# EAGLE library part SBRIO_DIO (library formula electric)
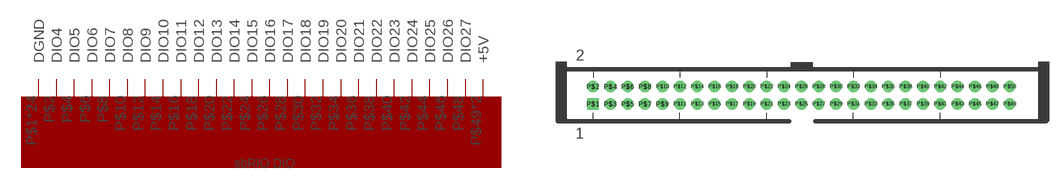
[diagram p1: symbol with the pads of SBRIO_J502_J503; footprint SBRIO_J502_J503]

Designator prefix -

## SBRIO_DIO  [SBRIO_J502_J503]
P$1  DGND
P$2  DIO4
P$3  DGND
P$4  DIO5
P$5  DGND
P$6  DIO6
P$7  DGND
P$8  DIO7
P$9  DGND
P$10  DIO8
P$11  DGND
P$12  DIO9
P$13  DGND
P$14  DIO10
P$15  DGND
P$16  DIO11
P$17  DGND
P$18  DIO12
P$19  DGND
P$20  DIO13
P$21  DGND
P$22  DIO14
P$23  DGND
P$24  DIO15
P$25  DGND
P$26  DIO16
P$27  DGND
P$28  DIO17
P$29  DGND
P$30  DIO18
P$31  DGND
P$32  DIO19
P$33  DGND
P$34  DIO20
P$35  DGND
P$36  DIO21
P$37  DGND
P$38  DIO22
P$39  DGND
P$40  DIO23
P$41  DGND
P$42  DIO24
P$43  DGND
P$44  DIO25
P$45  DGND
P$46  DIO26
P$47  DGND
P$48  DIO27
P$49  +5V  sup
P$50  +5V  sup

## Footprint SBRIO_J502_J503 (pad centres in mm)
50pin, 2.00mm spacing, Digikey: 952-2346-ND
drill 0.8 square: P$1 0,0
drill 0.8: P$2 0,2; P$3 2,0; P$4 2,2; P$5 4,0; P$6 4,2; P$7 6,0; P$8 6,2; P$9 8,0; P$10 8,2; P$11 10,0; P$12 10,2; P$13 12,0; P$14 12,2; P$15 14,0; P$16 14,2; P$17 16,0; P$18 16,2; P$19 18,0; P$20 18,2; P$21 20,0; P$22 20,2; P$23 22,0; P$24 22,2; P$25 24,0; P$26 24,2; P$27 26,0; P$28 26,2; P$29 28,0; P$30 28,2; P$31 30,0; P$32 30,2; P$33 32,0; P$34 32,2; P$35 34,0; P$36 34,2; P$37 36,0; P$38 36,2; P$39 38,0; P$40 38,2; P$41 40,0; P$42 40,2; P$43 42,0; P$44 42,2; P$45 44,0; P$46 44,2; P$47 46,0; P$48 46,2; P$49 48,0; P$50 48,2